# EAGLE library part DF40C-20XX-0.4V(51) (library tecsmith_hirose_df40)
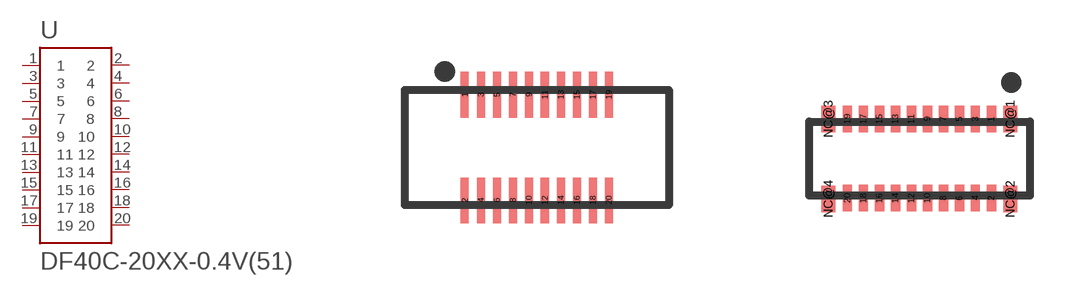
[diagram p0: symbol with the pads of DF40C-20DS-0.4V(51); footprints DF40C-20DS-0.4V(51), DF40C-20PD-0.4V(51)]

Designator prefix -

## DF40C-20XX-0.4V(51)RECEPTACLE  [DF40C-20DS-0.4V(51)]
1  1
2  2
3  3
4  4
5  5
6  6
7  7
8  8
9  9
10  10
11  11
12  12
13  13
14  14
15  15
16  16
17  17
18  18
19  19
20  20

## DF40C-20XX-0.4V(51)PLUG  [DF40C-20PD-0.4V(51)]
Pads as for DF40C-20DS-0.4V(51)

## Footprint DF40C-20DS-0.4V(51) (pad centres in mm)
Hirose DF40C-20DS-0.4V(51) Receptacle Datasheet <https://www.hirose.com/en/product/document?clcode=&productname=&series=DF40&documenttype=Catalog&lang=en&documentid=en_DF40_CAT>
smd 0.2 x 1.14: 1 -1.8,1.32; 2 -1.8,-1.32; 3 -1.4,1.32; 4 -1.4,-1.32; 5 -1,1.32; 6 -1,-1.32; 7 -0.6,1.32; 8 -0.6,-1.32; 9 -0.2,1.32; 10 -0.2,-1.32; 11 0.2,1.32; 12 0.2,-1.32; 13 0.6,1.32; 14 0.6,-1.32; 15 1,1.32; 16 1,-1.32; 17 1.4,1.32; 18 1.4,-1.32; 19 1.8,1.32; 20 1.8,-1.32

## Footprint DF40C-20PD-0.4V(51) (pad centres in mm)
Hirose DF40C-20DP-0.4V(51) Plug Datasheet <https://www.hirose.com/en/product/document?clcode=&productname=&series=DF40&documenttype=Catalog&lang=en&documentid=en_DF40_CAT>
smd 0.23 x 0.66: 1 1.8,0.99; 2 1.8,-0.99; 3 1.4,0.99; 4 1.4,-0.99; 5 1,0.99; 6 1,-0.99; 7 0.6,0.99; 8 0.6,-0.99; 9 0.2,0.99; 10 0.2,-0.99; 11 -0.2,0.99; 12 -0.2,-0.99; 13 -0.6,0.99; 14 -0.6,-0.99; 15 -1,0.99; 16 -1,-0.99; 17 -1.4,0.99; 18 -1.4,-0.99; 19 -1.8,0.99; 20 -1.8,-0.99
smd 0.35 x 0.66: NC@1 2.275,0.99; NC@2 2.275,-1.01; NC@3 -2.275,0.99; NC@4 -2.275,-1.01